# Altium schematic symbol library tm4cv006lib.SchLib: 203 symbols (part 3 of 5)
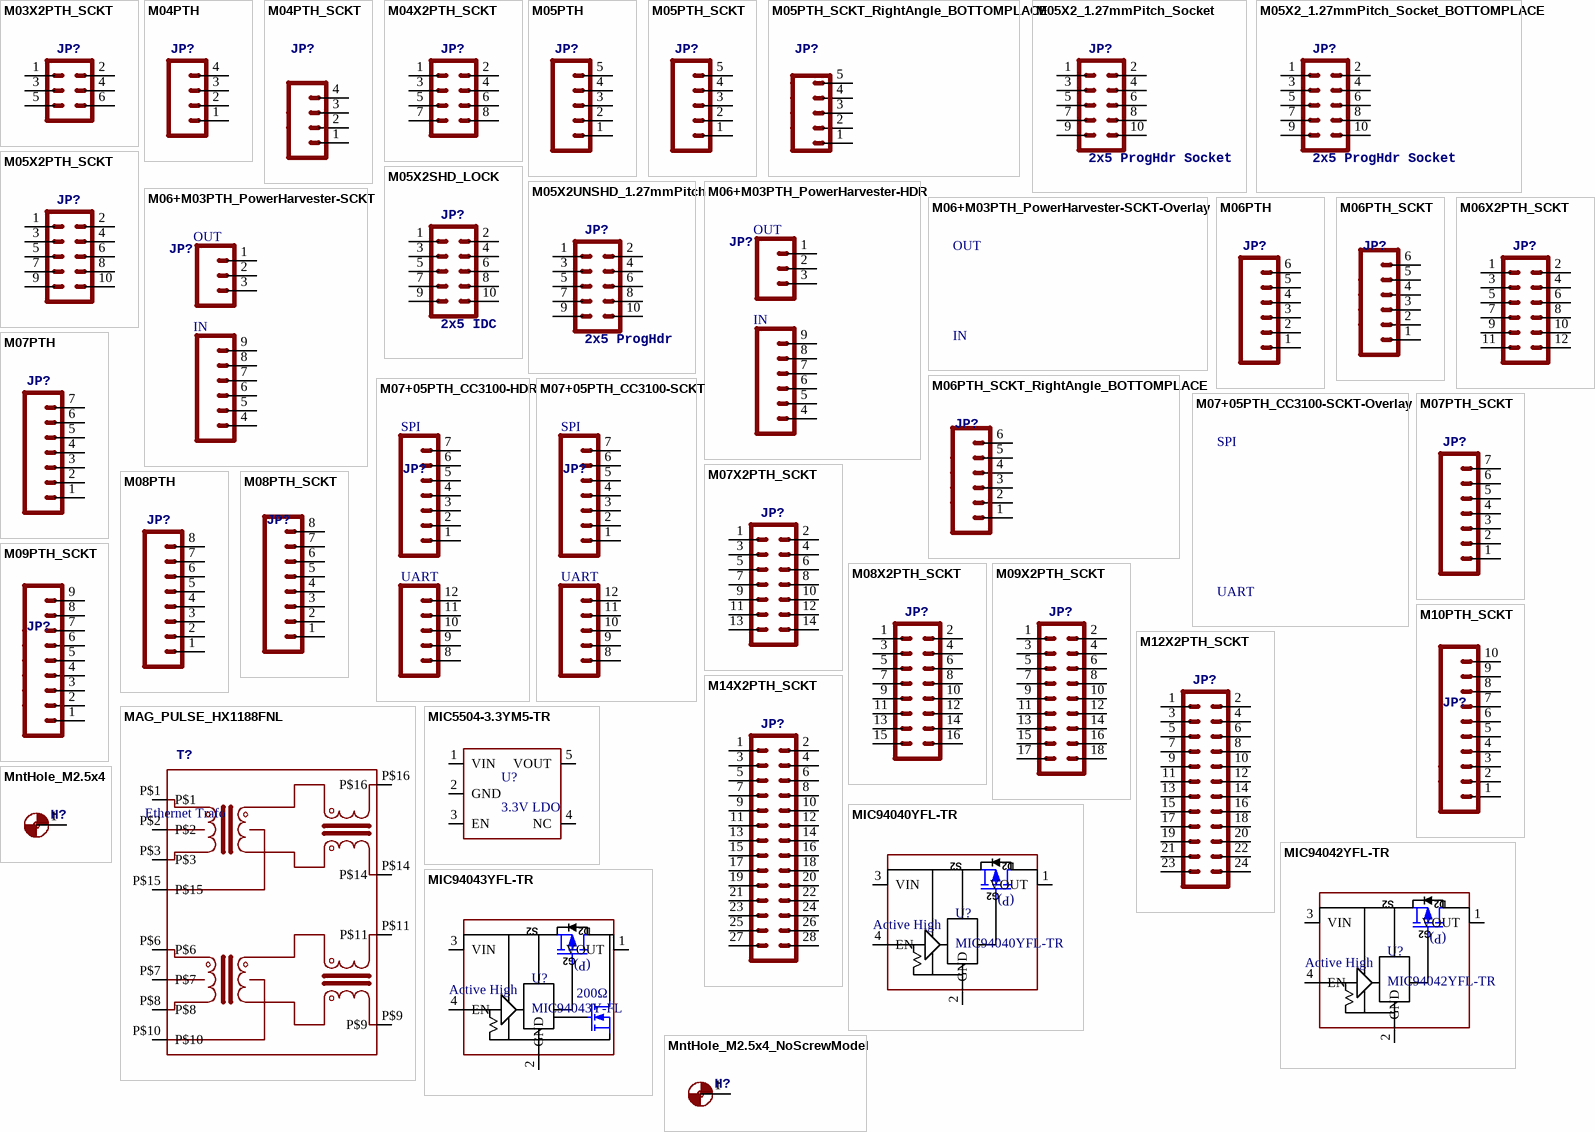
[diagram p7: symbols M03X2PTH_SCKT to MntHole_M2.5x4_NoScrewModel]

## M05X2SHD_LOCK
designator JP?, comment 2x5 IDC
2x5 IDC Shrouded Receptacle; Manufacturer: 3M Electronic Solutions Division; Manufacturer Part Number: 30310-6002HB; Current Rating: 1 A; Mounting Angle: Straight; Number of Positions: 10 Position; Pitch: 2.54 mm; Mating Post Length: 5.99 mm; Supplier 1: Mouser; Supplier Part Number 1: 517-30310-6002; RoHS: RoHS Compliant; Category: Headers & Wire Housings; Stock 1: 3708; Pricing 1: 1=0.640, 25=0.540, 50=0.480, 100=0.460, 200=0.420, 500=0.400, 1000=0.330, 2000=0.300, 5000=0.280 (USD); Accessory Type: -; Contact Plating: Gold; Contact Type: -; Housing Material: Polyester; Number of Rows: 2 Row; Packaging: Tray; Product: Headers; Series: 303; Termination Style: Through Hole; Type: Shrouded; Brand: 3M Electronic Solutions Division; Contact Material: Brass; Mounting Style: Straight Pin; Row Spacing: 2.54 mm; Contact Gender: Pin (Male); Product Category: .100" Low Profile Box Headers; Standard Pack Qty: 1000; Termination Post Length: 2.79 mm; RoHS - Mouser: Y; Minimum Order Quantity: 1; Reeling: False; ComponentLink1URL: http://www.mouser.com/ds/2/1/TS0818-221281.pdf; ComponentLink1Description: http://www.mouser.com/ds/2/1/TS0818-221281.pdf
footprint 2X5-SHROUDED_LOCK
pins: 1, 2, 3, 4, 5, 6, 7, 8, 9, 10

## M05X2UNSHD_1.27mmPitch
designator JP?, comment 2x5 ProgHdr
2x5 Pin 1.27mmPitch Programming Header; Manufacturer: Amphenol FCI; Manufacturer Part Number: 20021111-00010T1LF; Number of Positions: 10 Position; Pitch: 1.27 mm; Mating Post Length: 3.05 mm; RoHS: RoHS Compliant; Category: Headers & Wire Housings; Number of Rows: 2 Row; Packaging: Tube; Product: Headers; Series: Minitek; Type: Unshrouded; Brand: Amphenol FCI; Standard Pack Qty: 93; Termination Post Length: 2.3 mm; RoHS - Mouser: Y; Minimum Order Quantity: 1; Reeling: False; ComponentLink1URL: http://www.mouser.com/ds/2/18/gs-12-629-946365.pdf; ComponentLink1Description: http://www.mouser.com/ds/2/18/gs-12-629-946365.pdf; Supplier 1: Mouser; Supplier Part Number 1: 649-200211110010T1LF; Stock 1: 2408; Pricing 1: 1=0.580, 10=0.543, 100=0.416, 500=0.362, 1000=0.298, 2500=0.271, 5000=0.262, 10000=0.244, 25000=0.241 (USD); Supplier 2: Digi-Key; Supplier Part Number 2: 20021111-00010T1LF-ND; Supplier 3: Digi-Key; Supplier Part Number 3: 609-3712-ND
footprint 2x5_1.27mm_Unshrd_ProgHeader (Smaller 1.27mm pitch Programming Header)
pins: 1, 2, 3, 4, 5, 6, 7, 8, 9, 10

## M06+M03PTH_PowerHarvester-HDR
designator JP?  (value not drawn)
6 + 3 Pin Header
footprint HDR-PowerHarvester_1X06+1X03 (Power Harvester Header Connection)
pins: 1, 2, 3, 4, 5, 6, 7, 8, 9
text: OUT; IN

## M06+M03PTH_PowerHarvester-SCKT
designator JP?  (value not drawn)
6 + 3 Pin Header Socket
footprint SCKT-PowerHarvester_1X06+1X03 (Power Harvester Header Connection, Socket)
pins: 1, 2, 3, 4, 5, 6, 7, 8, 9
text: OUT; IN

## M06+M03PTH_PowerHarvester-SCKT-Overlay
designator JP?  (value not drawn)  (no BOM)
6 + 3 Pin Header Socket
footprint SCKT-PowerHarvester_1X06+1X03_OVERLAY (Power Harvester Header Connection, Socket)
text: OUT; IN

## M06PTH
designator JP?  (value not drawn)
6 Pin Header
footprint 1X06
pins: 1, 2, 3, 4, 5, 6

## M06PTH_SCKT
designator JP?  (value not drawn)
6 Pin Header Socket; Manufacturer: Preci-Dip; Manufacturer Part Number: 801-87-006-10-001101; Number of Positions: 6; Number of Positions Loaded: All; Pitch: 0.100" (2.54mm); Supplier 1: Digi-Key; Supplier Part Number 1: 1212-1186-ND; RoHS: RoHS Compliant; Category: Connectors, Interconnects; Stock 1: 1488; Pricing 1: 1=0.59, 10=0.551, 100=0.4225, 500=0.3674, 1000=0.30311, 5000=0.26637, 10000=0.248 (USD); Packaging: Bulk; Part Status: Active; Connector Type: Socket; Contact Type: Female Socket; Number of Rows: 1; Row Spacing: -; Mounting Type: Through Hole; Termination: Solder; Fastening Type: -; Features: -; Contact Finish: Gold; Contact Finish Thickness: Flash; Color: Black; ComponentLink1URL: http://www.precidip.com/AppHost/9696,1/Scripts/Modules/Catalog/Default.aspx?c=7&i=310&p=107&pdf=1&dsku=801-PP-NNN-10-001101; ComponentLink1Description: http://www.precidip.com/AppHost/9696,1/Scripts/Modules/Catalog/Default.aspx?c=7&i=310&p=107&pdf=1&dsku=801-PP-NNN-10-001101
footprint 1X06-SCKT
pins: 1, 2, 3, 4, 5, 6

## M06PTH_SCKT_RightAngle_BOTTOMPLACE
designator JP?, comment M06PTH_SCKT_RightAngle_BOTTOM  (value not drawn)
6 Pin Header Socket, Bottom Placement; Manufacturer: Preci-Dip; Manufacturer Part Number: 801-87-006-20-001101; Number of Positions: 6; Number of Positions Loaded: All; Pitch: 0.100" (2.54mm); Supplier 1: Digi-Key; Supplier Part Number 1: 1212-1187-ND; RoHS: RoHS Compliant; Category: Connectors, Interconnects; Stock 1: 1021; Pricing 1: 1=0.79, 10=0.693, 100=0.5978, 500=0.48912, 1000=0.43477, 5000=0.38042, 10000=0.3614 (USD); Packaging: Bulk; Part Status: Active; Connector Type: Socket; Contact Type: Female Socket; Number of Rows: 1; Row Spacing: -; Mounting Type: Through Hole, Right Angle; Termination: Solder; Fastening Type: -; Features: -; Contact Finish: Gold; Contact Finish Thickness: Flash; Color: Black; ComponentLink1URL: http://www.precidip.com/AppHost/9696,1/Scripts/Modules/Catalog/Default.aspx?c=7&i=223&p=86&pdf=1&dsku=801-PP-NNN-20-001101; ComponentLink1Description: http://www.precidip.com/AppHost/9696,1/Scripts/Modules/Catalog/Default.aspx?c=7&i=223&p=86&pdf=1&dsku=801-PP-NNN-20-001101
footprint 1X06-SCKT_RightAngle_BottomPlace
pins: 1, 2, 3, 4, 5, 6

## M06X2PTH_SCKT
designator JP?, comment M06X2PTH-SCKT  (value not drawn)
2X6 Pin Header Socket; Manufacturer: Preci-Dip; Manufacturer Part Number: 803-87-012-10-001101; Style: Board to Board; Number of Positions: 12; Number of Positions Loaded: All; Pitch - Mating: 0.100" (2.54mm); Contact Length - Post: 0.118" (3.00mm); Material Flammability Rating: UL94 V-0; Current Rating: 3A; Supplier 1: Digi-Key; Supplier Part Number 1: 1212-1238-ND; RoHS: RoHS Compliant; Category: Connectors, Interconnects; Stock 1: 1543; Pricing 1: 1=1.07, 10=0.937, 100=0.8083, 500=0.66132, 1000=0.58784, 5000=0.51436, 10000=0.48864 (USD); Packaging: Bulk; Part Status: Active; Connector Type: Socket; Contact Type: Female Socket; Number of Rows: 2; Row Spacing - Mating: 0.100" (2.54mm); Mounting Type: Through Hole; Termination: Solder; Fastening Type: Push-Pull; Contact Finish - Mating: Gold; Contact Finish Thickness - Mating: Flash; Insulation Color: Black; Insulation Height: 0.276" (7.00mm); Operating Temperature: -55°C ~ 125°C; Contact Finish - Post: Tin; Mated Stacking Heights: -; Ingress Protection: -; Features: -; Voltage Rating: -; Applications: -; Insulation Material: Polycyclohexylenedimethylene Terephthalate (PCT), Polyester, Glass Filled; Contact Shape: Circular; Contact Material: Beryllium Copper; Contact Finish Thickness - Post: -; ComponentLink1URL: http://www.precidip.com/AppHost/9696,1/Scripts/Modules/Catalog/Default.aspx?c=7&i=391&p=108&pdf=1&dsku=803-PP-NNN-10-001101; ComponentLink1Description: http://www.precidip.com/AppHost/9696,1/Scripts/Modules/Catalog/Default.aspx?c=7&i=391&p=108&pdf=1&dsku=803-PP-NNN-10-001101
footprint 2X6-SCKT
pins: 1, 2, 3, 4, 5, 6, 7, 8, 9, 10, 11, 12

## M07+05PTH_CC3100-HDR
designator JP?  (value not drawn)
7+5 Pin Header
footprint HDR-CC3100_1X07+1X05 (CC3100 Header Connection)
pins: 1, 2, 3, 4, 5, 6, 7, 8, 9, 10, 11, 12
text: SPI; UART

## M07+05PTH_CC3100-SCKT
designator JP?  (value not drawn)
7+5 Pin Header Socket
footprint SCKT-CC3100_1X07+1X05 (CC3100 Header Connection, Socket)
pins: 1, 2, 3, 4, 5, 6, 7, 8, 9, 10, 11, 12
text: SPI; UART

## M07+05PTH_CC3100-SCKT-Overlay
designator JP?  (value not drawn)  (no BOM)
7+5 Pin Header Socket
footprint SCKT-CC3100_1X07+1X05_Overlay (CC3100 Header Connection, Socket)
text: SPI; UART

## M07PTH
designator JP?  (value not drawn)
7 Pin Header
footprint 1X07
pins: 1, 2, 3, 4, 5, 6, 7

## M07PTH_SCKT
designator JP?  (value not drawn)
7 Pin Header Socket; Manufacturer: Preci-Dip; Manufacturer Part Number: 801-87-007-10-001101; Number of Positions: 7; Number of Positions Loaded: All; Pitch: 0.100" (2.54mm); RoHS: RoHS Compliant; Category: Connectors, Interconnects; Packaging: Bulk; Part Status: Active; Connector Type: Socket; Contact Type: Female Socket; Number of Rows: 1; Row Spacing: -; Mounting Type: Through Hole; Termination: Solder; Fastening Type: -; Features: -; Contact Finish: Gold; Contact Finish Thickness: Flash; Color: Black; ComponentLink1URL: http://www.precidip.com/AppHost/9696,1/Scripts/Modules/Catalog/Default.aspx?c=7&i=310&p=107&pdf=1&dsku=801-PP-NNN-10-001101; ComponentLink1Description: http://www.precidip.com/AppHost/9696,1/Scripts/Modules/Catalog/Default.aspx?c=7&i=310&p=107&pdf=1&dsku=801-PP-NNN-10-001101; Supplier 1: Digi-Key; Supplier Part Number 1: 1212-1188-ND; Stock 1: 1740; Pricing 1: 1=0.69, 10=0.643, 100=0.4929, 500=0.4286, 1000=0.3536, 5000=0.31074, 10000=0.28931 (USD)
footprint 1X07-SCKT
pins: 1, 2, 3, 4, 5, 6, 7

## M07X2PTH_SCKT
designator JP?, comment M07X2PTH-SCKT  (value not drawn)
2X7 Pin Header Socket; Manufacturer: Preci-Dip; Manufacturer Part Number: 803-87-014-10-001101; Style: Board to Board; Number of Positions: 14; Number of Positions Loaded: All; Pitch - Mating: 0.100" (2.54mm); Contact Length - Post: 0.118" (3.00mm); Material Flammability Rating: UL94 V-0; Current Rating: 3A; Supplier 1: Digi-Key; Supplier Part Number 1: 1212-1239-ND; RoHS: RoHS Compliant; Category: Connectors, Interconnects; Stock 1: 412; Pricing 1: 1=1.24, 10=1.093, 100=0.9429, 500=0.77148, 1000=0.68576, 5000=0.60004, 10000=0.57004 (USD); Packaging: Bulk; Part Status: Active; Connector Type: Socket; Contact Type: Female Socket; Number of Rows: 2; Row Spacing - Mating: 0.100" (2.54mm); Mounting Type: Through Hole; Termination: Solder; Fastening Type: Push-Pull; Contact Finish - Mating: Gold; Contact Finish Thickness - Mating: Flash; Insulation Color: Black; Insulation Height: 0.276" (7.00mm); Operating Temperature: -55°C ~ 125°C; Contact Finish - Post: Tin; Mated Stacking Heights: -; Ingress Protection: -; Features: -; Voltage Rating: -; Applications: -; Insulation Material: Polycyclohexylenedimethylene Terephthalate (PCT), Polyester, Glass Filled; Contact Shape: Circular; Contact Material: Beryllium Copper; Contact Finish Thickness - Post: -; ComponentLink1URL: http://www.precidip.com/AppHost/9696,1/Scripts/Modules/Catalog/Default.aspx?c=7&i=391&p=108&pdf=1&dsku=803-PP-NNN-10-001101; ComponentLink1Description: http://www.precidip.com/AppHost/9696,1/Scripts/Modules/Catalog/Default.aspx?c=7&i=391&p=108&pdf=1&dsku=803-PP-NNN-10-001101
footprint 2X7-SCKT
pins: 1, 2, 3, 4, 5, 6, 7, 8, 9, 10, 11, 12, 13, 14

## M08PTH
designator JP?  (value not drawn)
8 Pin Header
footprint 1X08
pins: 1, 2, 3, 4, 5, 6, 7, 8

## M08PTH_SCKT
designator JP?  (value not drawn)
8 Pin Header Socket; Manufacturer: Preci-Dip; Manufacturer Part Number: 801-87-008-10-001101; Number of Positions: 8; Number of Positions Loaded: All; Pitch: 0.100" (2.54mm); Supplier 1: Digi-Key; Supplier Part Number 1: 1212-1190-ND; RoHS: RoHS Compliant; Category: Connectors, Interconnects; Stock 1: 3070; Pricing 1: 1=0.78, 10=0.735, 100=0.5633, 500=0.4898, 1000=0.40409, 5000=0.35511, 10000=0.33062 (USD); Packaging: Bulk; Part Status: Active; Connector Type: Socket; Contact Type: Female Socket; Number of Rows: 1; Row Spacing: -; Mounting Type: Through Hole; Termination: Solder; Fastening Type: -; Features: -; Contact Finish: Gold; Contact Finish Thickness: Flash; Color: Black; ComponentLink1URL: http://www.precidip.com/AppHost/9696,1/Scripts/Modules/Catalog/Default.aspx?c=7&i=310&p=107&pdf=1&dsku=801-PP-NNN-10-001101; ComponentLink1Description: http://www.precidip.com/AppHost/9696,1/Scripts/Modules/Catalog/Default.aspx?c=7&i=310&p=107&pdf=1&dsku=801-PP-NNN-10-001101
footprint 1X08-SCKT
pins: 1, 2, 3, 4, 5, 6, 7, 8

## M08X2PTH_SCKT
designator JP?, comment M08X2PTH-SCKT  (value not drawn)
2X8 Pin Header Socket; Manufacturer: Preci-Dip; Manufacturer Part Number: 803-87-016-10-001101; Style: Board to Board; Number of Positions: 16; Number of Positions Loaded: All; Pitch - Mating: 0.100" (2.54mm); Contact Length - Post: 0.118" (3.00mm); Material Flammability Rating: UL94 V-0; Current Rating: 3A; Supplier 1: Digi-Key; Supplier Part Number 1: 1212-1241-ND; RoHS: RoHS Compliant; Category: Connectors, Interconnects; Stock 1: 1207; Pricing 1: 1=1.42, 10=1.249, 100=1.0776, 500=0.88164, 1000=0.78368, 5000=0.68572, 10000=0.65143 (USD); Packaging: Bulk; Part Status: Active; Connector Type: Socket; Contact Type: Female Socket; Number of Rows: 2; Row Spacing - Mating: 0.100" (2.54mm); Mounting Type: Through Hole; Termination: Solder; Fastening Type: Push-Pull; Contact Finish - Mating: Gold; Contact Finish Thickness - Mating: Flash; Insulation Color: Black; Insulation Height: 0.276" (7.00mm); Operating Temperature: -55°C ~ 125°C; Contact Finish - Post: Tin; Mated Stacking Heights: -; Ingress Protection: -; Features: -; Voltage Rating: -; Applications: -; Insulation Material: Polycyclohexylenedimethylene Terephthalate (PCT), Polyester, Glass Filled; Contact Shape: Circular; Contact Material: Beryllium Copper; Contact Finish Thickness - Post: -; ComponentLink1URL: http://www.precidip.com/AppHost/9696,1/Scripts/Modules/Catalog/Default.aspx?c=7&i=391&p=108&pdf=1&dsku=803-PP-NNN-10-001101; ComponentLink1Description: http://www.precidip.com/AppHost/9696,1/Scripts/Modules/Catalog/Default.aspx?c=7&i=391&p=108&pdf=1&dsku=803-PP-NNN-10-001101
footprint 2X8-SCKT
pins: 1, 2, 3, 4, 5, 6, 7, 8, 9, 10, 11, 12, 13, 14, 15, 16

## M09PTH_SCKT
designator JP?  (value not drawn)
9 Pin Header Socket; Manufacturer: Preci-Dip; Manufacturer Part Number: 801-87-009-10-001101; Number of Positions: 9; Number of Positions Loaded: All; Pitch: 0.100" (2.54mm); Supplier 1: Digi-Key; Supplier Part Number 1: 1212-1193-ND; RoHS: RoHS Compliant; Category: Connectors, Interconnects; Stock 1: 66; Pricing 1: 1=0.8, 10=0.703, 100=0.6061, 500=0.4959, 1000=0.4408, 5000=0.3857, 10000=0.36642 (USD); Packaging: Bulk; Part Status: Active; Connector Type: Socket; Contact Type: Female Socket; Number of Rows: 1; Row Spacing: -; Mounting Type: Through Hole; Termination: Solder; Fastening Type: -; Features: -; Contact Finish: Gold; Contact Finish Thickness: Flash; Color: Black; ComponentLink1URL: http://www.precidip.com/AppHost/9696,1/Scripts/Modules/Catalog/Default.aspx?c=7&i=310&p=107&pdf=1&dsku=801-PP-NNN-10-001101; ComponentLink1Description: http://www.precidip.com/AppHost/9696,1/Scripts/Modules/Catalog/Default.aspx?c=7&i=310&p=107&pdf=1&dsku=801-PP-NNN-10-001101
footprint 1X09-SCKT
pins: 1, 2, 3, 4, 5, 6, 7, 8, 9

## M09X2PTH_SCKT
designator JP?, comment M09X2PTH-SCKT  (value not drawn)
2X9 Pin Header Socket; Manufacturer: Preci-Dip; Manufacturer Part Number: 803-87-018-10-001101; Style: Board to Board; Number of Positions: 18; Number of Positions Loaded: All; Pitch - Mating: 0.100" (2.54mm); Contact Length - Post: 0.118" (3.00mm); Material Flammability Rating: UL94 V-0; Current Rating: 3A; Supplier 1: Digi-Key; Supplier Part Number 1: 1212-1244-ND; RoHS: RoHS Compliant; Category: Connectors, Interconnects; Stock 1: 575; Pricing 1: 1=1.49, 10=1.35, 100=1.1571, 500=0.96426, 1000=0.8265, 5000=0.73283, 10000=0.7163 (USD); Packaging: Bulk; Part Status: Active; Connector Type: Socket; Contact Type: Female Socket; Number of Rows: 2; Row Spacing - Mating: 0.100" (2.54mm); Mounting Type: Through Hole; Termination: Solder; Fastening Type: Push-Pull; Contact Finish - Mating: Gold; Contact Finish Thickness - Mating: Flash; Insulation Color: Black; Insulation Height: 0.276" (7.00mm); Operating Temperature: -55°C ~ 125°C; Contact Finish - Post: Tin; Mated Stacking Heights: -; Ingress Protection: -; Features: -; Voltage Rating: -; Applications: -; Insulation Material: Polycyclohexylenedimethylene Terephthalate (PCT), Polyester, Glass Filled; Contact Shape: Circular; Contact Material: Beryllium Copper; Contact Finish Thickness - Post: -; ComponentLink1URL: http://www.precidip.com/AppHost/9696,1/Scripts/Modules/Catalog/Default.aspx?c=7&i=391&p=108&pdf=1&dsku=803-PP-NNN-10-001101; ComponentLink1Description: http://www.precidip.com/AppHost/9696,1/Scripts/Modules/Catalog/Default.aspx?c=7&i=391&p=108&pdf=1&dsku=803-PP-NNN-10-001101
footprint 2X9-SCKT
pins: 1, 2, 3, 4, 5, 6, 7, 8, 9, 10, 11, 12, 13, 14, 15, 16, 17, 18

## M10PTH_SCKT
designator JP?  (value not drawn)
10 Pin Header Socket; Manufacturer: Preci-Dip; Manufacturer Part Number: 801-87-010-10-001101; Number of Positions: 10; Number of Positions Loaded: All; Pitch: 0.100" (2.54mm); Supplier 1: Digi-Key; Supplier Part Number 1: 1212-1195-ND; RoHS: RoHS Compliant; Category: Connectors, Interconnects; Stock 1: 409; Pricing 1: 1=0.89, 10=0.781, 100=0.6734, 500=0.55098, 1000=0.48976, 5000=0.42854, 10000=0.40711 (USD); Packaging: Bulk; Part Status: Active; Connector Type: Socket; Contact Type: Female Socket; Number of Rows: 1; Row Spacing: -; Mounting Type: Through Hole; Termination: Solder; Fastening Type: -; Features: -; Contact Finish: Gold; Contact Finish Thickness: Flash; Color: Black; ComponentLink1URL: http://www.precidip.com/AppHost/9696,1/Scripts/Modules/Catalog/Default.aspx?c=7&i=310&p=107&pdf=1&dsku=801-PP-NNN-10-001101; ComponentLink1Description: http://www.precidip.com/AppHost/9696,1/Scripts/Modules/Catalog/Default.aspx?c=7&i=310&p=107&pdf=1&dsku=801-PP-NNN-10-001101
footprint 1X10-SCKT
pins: 1, 2, 3, 4, 5, 6, 7, 8, 9, 10

## M12X2PTH_SCKT
designator JP?, comment M12X2PTH-SCKT  (value not drawn)
2X12 Pin Header Socket; Manufacturer: Preci-Dip; Manufacturer Part Number: 803-87-024-10-001101; Style: Board to Board; Number of Positions: 24; Number of Positions Loaded: All; Pitch - Mating: 0.100" (2.54mm); Contact Length - Post: 0.118" (3.00mm); Material Flammability Rating: UL94 V-0; Current Rating: 3A; Supplier 1: Digi-Key; Supplier Part Number 1: 1212-1252-ND; RoHS: RoHS Compliant; Category: Connectors, Interconnects; Stock 1: 498; Pricing 1: 1=1.93, 10=1.753, 100=1.5028, 500=1.25236, 1000=1.07345, 5000=0.95179, 10000=0.93032 (USD); Packaging: Bulk; Part Status: Active; Connector Type: Socket; Contact Type: Female Socket; Number of Rows: 2; Row Spacing - Mating: 0.100" (2.54mm); Mounting Type: Through Hole; Termination: Solder; Fastening Type: Push-Pull; Contact Finish - Mating: Gold; Contact Finish Thickness - Mating: Flash; Insulation Color: Black; Insulation Height: 0.276" (7.00mm); Operating Temperature: -55°C ~ 125°C; Contact Finish - Post: Tin; Mated Stacking Heights: -; Ingress Protection: -; Features: -; Voltage Rating: -; Applications: -; Insulation Material: Polycyclohexylenedimethylene Terephthalate (PCT), Polyester, Glass Filled; Contact Shape: Circular; Contact Material: Beryllium Copper; Contact Finish Thickness - Post: -; ComponentLink1URL: http://www.precidip.com/AppHost/9696,1/Scripts/Modules/Catalog/Default.aspx?c=7&i=391&p=108&pdf=1&dsku=803-PP-NNN-10-001101; ComponentLink1Description: http://www.precidip.com/AppHost/9696,1/Scripts/Modules/Catalog/Default.aspx?c=7&i=391&p=108&pdf=1&dsku=803-PP-NNN-10-001101
footprint 2X12-SCKT
pins: 1, 2, 3, 4, 5, 6, 7, 8, 9, 10, 11, 12, 13, 14, 15, 16, 17, 18, 19, 20, 21, 22, 23, 24

## M14X2PTH_SCKT
designator JP?, comment M14X2PTH-SCKT  (value not drawn)
2X14 Pin Header Socket; Manufacturer: Preci-Dip; Manufacturer Part Number: 803-87-028-10-001101; Style: Board to Board; Number of Positions: 28; Number of Positions Loaded: All; Pitch - Mating: 0.100" (2.54mm); Contact Length - Post: 0.118" (3.00mm); Material Flammability Rating: UL94 V-0; Current Rating: 3A; Supplier 1: Digi-Key; Supplier Part Number 1: 1212-1255-ND; RoHS: RoHS Compliant; Category: Connectors, Interconnects; Stock 1: 402; Pricing 1: 1=2.25, 10=2.045, 100=1.7532, 500=1.46102, 1000=1.25231, 5000=1.11038 (USD); Packaging: Bulk; Part Status: Active; Connector Type: Socket; Contact Type: Female Socket; Number of Rows: 2; Row Spacing - Mating: 0.100" (2.54mm); Mounting Type: Through Hole; Termination: Solder; Fastening Type: Push-Pull; Contact Finish - Mating: Gold; Contact Finish Thickness - Mating: Flash; Insulation Color: Black; Insulation Height: 0.276" (7.00mm); Operating Temperature: -55°C ~ 125°C; Contact Finish - Post: Tin; Mated Stacking Heights: -; Ingress Protection: -; Features: -; Voltage Rating: -; Applications: -; Insulation Material: Polycyclohexylenedimethylene Terephthalate (PCT), Polyester, Glass Filled; Contact Shape: Circular; Contact Material: Beryllium Copper; Contact Finish Thickness - Post: -; ComponentLink1URL: http://www.precidip.com/AppHost/9696,1/Scripts/Modules/Catalog/Default.aspx?c=7&i=391&p=108&pdf=1&dsku=803-PP-NNN-10-001101; ComponentLink1Description: http://www.precidip.com/AppHost/9696,1/Scripts/Modules/Catalog/Default.aspx?c=7&i=391&p=108&pdf=1&dsku=803-PP-NNN-10-001101
footprint 2X14-SCKT
pins: 1, 2, 3, 4, 5, 6, 7, 8, 9, 10, 11, 12, 13, 14, 15, 16, 17, 18, 19, 20, 21, 22, 23, 24, 25, 26, 27, 28

## MAG_PULSE_HX1188FNL
designator T?, comment Ethernet Trafo
Manufacturer: Pulse; Manufacturer Part Number: HX1198FNL; Frequency Range: 100 kHz to 100 MHz; Isolation Voltage: 1.5 kV; Type: 100 Base TX Single Port Surface Mount Magnetics; Supplier 1: Mouser; Supplier Part Number 1: 673-HX1198FNL; RoHS: RoHS Compliant; Category: Transformers Audio & Signal; Stock 1: 772; Pricing 1: 1=4.76, 10=3.86, 25=3.09, 50=2.92, 100=2.79, 250=2.71, 500=2.63, 1000=2.55, 2500=2.33 (USD); Height: 6 mm; Length: 12.7 mm; Operating Temperature Range: - 40 C to + 85 C; Package / Case: SMT; Packaging: Bulk; Product: 100 Base TX Single Port Surface Mount Magnetics; Termination Style: SMD/SMT; Width: 9.53 mm; Brand: Pulse; Product Category: Transformers; Standard Pack Qty: 40; RoHS - Mouser: Y; Minimum Order Quantity: 1; Reeling: False; ComponentLink1URL: http://www.mouser.com/ds/2/336/H329-262036.pdf; ComponentLink1Description: http://www.mouser.com/ds/2/336/H329-262036.pdf
footprint MAG_PULSE_HX1188FNL
pins: P$1, P$2, P$3, P$6, P$7, P$8, P$9, P$10, P$11, P$14, P$15, P$16

## MIC5504-3.3YM5-TR
designator U?, comment 3.3V LDO
Manufacturer: Microchip Technology; Manufacturer Part Number: MIC5504-3.3YM5-TR; Regulator Topology: Positive Fixed; Current - Output: 300mA; Voltage - Dropout (Typical): 0.16V @ 300mA; Number of Regulators: 1; Voltage - Input: Up to 5.5V; Current - Limit (Min): 400mA; Supplier 1: Digi-Key; Supplier Part Number 1: 576-4764-1-ND; RoHS: RoHS Compliant; Category: Integrated Circuits (ICs); Stock 1: 3590; Pricing 1: 1=0.11, 25=0.0928, 100=0.0824 (USD); Packaging: Cut Tape (CT); Part Status: Active; Voltage - Output: 3.3V; Operating Temperature: -40°C ~ 125°C; Mounting Type: Surface Mount; Package / Case: SC-74A, SOT-753; Supplier Device Package: SOT-23-5; ComponentLink1URL: http://www.microchip.com/mymicrochip/filehandler.aspx?ddocname=en580292; ComponentLink1Description: http://www.microchip.com/mymicrochip/filehandler.aspx?ddocname=en580292
footprint MIC5504-3.3YM5-TR (El Cheapo 3.3V LDO, SOT23, 5-Leads, Body 2.90x2.80mm, Pitch 0.95mm, IPC Medium Density)
pins: 1 VIN "Connection for Inductor", 2 GND "Connection for Inductor", 3 EN "Connection for Inductor", 4 NC "Connection for Inductor", 5 VOUT "Connection for Inductor"

## MIC94040YFL-TR
designator U?
High Side Load Switch; Manufacturer: Microchip / Micrel; Manufacturer Part Number: MIC94040YFLTR; Output Current: 3; Number of Outputs: 1; Max Input Voltage: 5.5; Min Input Voltage: 1.7; Interface: On/Off; On-State Resistance: 28; Supplier 1: Mouser; Supplier Part Number 1: 998-MIC94040YFLTR; Stock 1: 9585; Pricing 1: 1=0.64, 10=0.57, 50=0.48, 100=0.44, 1000=0.44, 10000=0.44 (USD); Mount: Surface Mount; Case/Package: DFN; Number of Pins: 4; Min Operating Temperature: -40; Max Operating Temperature: 125; Nominal Supply Current: 3; Packaging: Tape and Reel; Package Quantity: 5000; Current Rating: 3; Max Output Current: 3; Length: 1.2; Height: 0.75; Width: 1.2; Radiation Hardening: No; REACH SVHC: No SVHC; Lead Free: Lead Free; ComponentLink1URL: https://datasheet.ciiva.com/15108/getdatasheetpartid-115492-15108965.pdf; ComponentLink1Description: https://datasheet.ciiva.com/15108/getdatasheetpartid-115492-15108965.pdf; ComponentLink2URL: https://datasheet.ciiva.com/1955/mic9404x-1955815.pdf; ComponentLink2Description: https://datasheet.ciiva.com/1955/mic9404x-1955815.pdf; ComponentLink3URL: https://datasheet.ciiva.com/1955/mic9404x-1955816.pdf; ComponentLink3Description: https://datasheet.ciiva.com/1955/mic9404x-1955816.pdf; ComponentLink4URL: https://datasheet.ciiva.com/16391/mic9404x-16391240.pdf; ComponentLink4Description: https://datasheet.ciiva.com/16391/mic9404x-16391240.pdf; ComponentLink5URL: https://datasheet.ciiva.com/1955/mic9404x-1955817.pdf; ComponentLink5Description: https://datasheet.ciiva.com/1955/mic9404x-1955817.pdf; ComponentLink6URL: https://datasheet.ciiva.com/7992/1670802-7992543.pdf; ComponentLink6Description: https://datasheet.ciiva.com/7992/1670802-7992543.pdf
footprint MIC94040YFL-TR (DFN, 4-Leads, Body 1.20x1.20mm, Pitch 0.65mm, IPC Medium Density)
pins: 1 VOUT, 2 GND, 3 VIN, 4 EN
text: S2; D2; G2; (P); Active High

## MIC94042YFL-TR
designator U?
High Side Load Switch; Manufacturer: Microchip / Micrel; Manufacturer Part Number: MIC94042YFLTR; Output Current: 3; Number of Outputs: 1; Interface: On/Off; Voltage: 5.5; On-State Resistance: 28; Supplier 1: Mouser; Supplier Part Number 1: 998-MIC94042YFLTR; Stock 1: 3483; Pricing 1: 1=0.74, 10=0.67, 50=0.56, 100=0.51, 1000=0.51, 10000=0.51 (USD); Mount: Surface Mount; Case/Package: DFN; Number of Pins: 4; Min Operating Temperature: -40; Max Operating Temperature: 125; Nominal Supply Current: 3; Packaging: Tape and Reel; Package Quantity: 5000; Current Rating: 3; Max Output Current: 3; Current: 3; Length: 1.2; Height: 0.7; Width: 1.2; REACH SVHC: No SVHC; Lead Free: Lead Free; ComponentLink1URL: https://datasheet.ciiva.com/1956/mic9404x-1956232.pdf; ComponentLink1Description: https://datasheet.ciiva.com/1956/mic9404x-1956232.pdf; ComponentLink2URL: https://datasheet.ciiva.com/1956/mic9404x-1956233.pdf; ComponentLink2Description: https://datasheet.ciiva.com/1956/mic9404x-1956233.pdf; ComponentLink3URL: https://datasheet.ciiva.com/1956/mic9404x-1956234.pdf; ComponentLink3Description: https://datasheet.ciiva.com/1956/mic9404x-1956234.pdf; ComponentLink4URL: https://datasheet.ciiva.com/46430/1670802-46430492.pdf; ComponentLink4Description: https://datasheet.ciiva.com/46430/1670802-46430492.pdf
footprint MIC94042YFL-TR (DFN, 4-Leads, Body 1.20x1.20mm, Pitch 0.65mm, IPC Medium Density)
pins: 1 VOUT, 2 GND, 3 VIN, 4 EN
text: S2; D2; G2; (P); Active High

## MIC94043YFL-TR
designator U?, comment MIC94043Y-FL
High Side Load Switch; Manufacturer: Microchip Technology; Manufacturer Part Number: MIC94040YFL-TR; Switch Type: General Purpose; Number of Outputs: 1; Ratio - Input:Output: 1:1; Output Type: P-Channel; Interface: On/Off; Voltage - Load: 1.7 V ~ 5.5 V; Voltage - Supply (Vcc/Vdd): Not Required; Current - Output (Max): 3A; Rds On (Typ): 28 mOhm; Input Type: Non-Inverting; Supplier 1: Digi-Key; Supplier Part Number 1: 576-3225-1-ND; RoHS: RoHS Compliant; Category: Integrated Circuits (ICs); Stock 1: 17181; Pricing 1: 1=0.59, 25=0.4944, 100=0.4532 (USD); Packaging: Cut Tape (CT); Part Status: Active; Output Configuration: High Side; Features: -; Fault Protection: -; Operating Temperature: -40°C ~ 125°C (TJ); Package / Case: 4-WQFN, 4-MLF®; Supplier Device Package: 4-MLF® (1.2x1.2); ComponentLink1URL: http://www.microchip.com/mymicrochip/filehandler.aspx?ddocname=en580796; ComponentLink1Description: http://www.microchip.com/mymicrochip/filehandler.aspx?ddocname=en580796; Supplier 2: Mouser; Supplier Part Number 2: 998-MIC94040YFLTR
footprint MIC94043Y-FL (DFN, 4-Leads, Body 1.20x1.20mm, Pitch 0.65mm, IPC Medium Density)
pins: 1 VOUT, 2 GND, 3 VIN, 4 EN
text: S2; D2; G2; (P); Active High; 200Ω

## MntHole_M2.5x4
designator H?, comment Mounting Hole  (value not drawn)  (no BOM)
Mount Hole for M2.5x4 Machine Screws
footprint MntHole-M2.5x4mm (Mounting Hole, 2.5X4mm Machine Screws)
pins: 1

## MntHole_M2.5x4_NoScrewModel
designator H?, comment Mounting Hole  (value not drawn)  (no BOM)
Mount Hole for M2.5x4 Machine Screws
footprint MntHole-M2.5x4_NoScrewModel (Mounting Hole, 2.5X4mm Machine Screws)
pins: 1

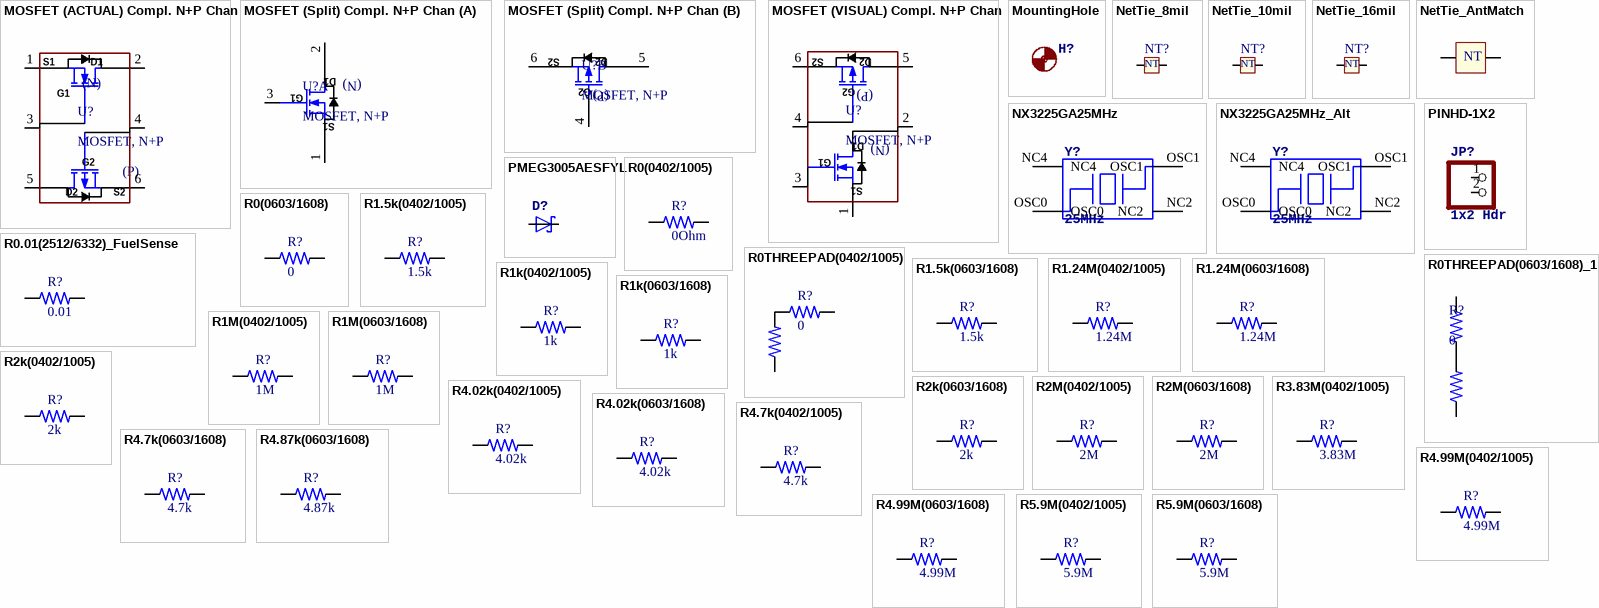
[diagram p3: symbols MOSFET (ACTUAL) Compl. N+P Chan to R5.9M(0603/1608)]

## MOSFET (ACTUAL) Compl. N+P Chan
designator U?, comment MOSFET, N+P
MOSFET, N+P Channels; Manufacturer: Diodes Incorporated; Manufacturer Part Number: DMC1229UFDB-13; Configuration: 1 N-Channel, 1 P-Channel; Number of Channels: 2 Channel; Transistor Polarity: N-Channel, P-Channel; Channel Mode: Enhancement; Fall Time: 4.1 ns, 26.4 ns; Id - Continuous Drain Current: 5.6 A, - 3.8 A; Pd - Power Dissipation: 1.4 W; Qg - Gate Charge: 19.6 nC, 17.9 nC; Rds On - Drain-Source Resistance: 17 mOhms, 37 mOhms; Rise Time: 10.5 ns,11.5 ns; Typical Turn-Off Delay Time: 16.6 ns, 27.8 ns; Typical Turn-On Delay Time: 5 ns, 5.7 ns; Vds - Drain-Source Breakdown Voltage: + 12 V, - 12 V; Vgs - Gate-Source Voltage: +/- 8 V, +/- 8 V; Vgs th - Gate-Source Threshold Voltage: 400 mV, - 1 V; Supplier 1: Mouser; Supplier Part Number 1: 621-DMC1229UFDB-13; RoHS: RoHS Compliant; Category: MOSFET; Stock 1: 4235; Pricing 1: 1=0.500, 10=0.375, 100=0.236, 1000=0.176, 2500=0.151, 10000=0.140, 20000=0.132, 50000=0.127 (USD); Package / Case: UDFN2020-6; Packaging: Reel; Series: DMC1229; Technology: Si; Transistor Type: 1 N-Channel, 1 P-Channel; Brand: Diodes Incorporated; Forward Transconductance - Min: -; Mounting Style: SMD/SMT; Maximum Operating Temperature: + 150 C; Minimum Operating Temperature: - 55 C; Standard Pack Qty: 10000; RoHS - Mouser: Y; Minimum Order Quantity: 1; Reeling: True; ComponentLink1URL: http://www.mouser.com/ds/2/115/DMC1229UFDB-271611.pdf; ComponentLink1Description: http://www.mouser.com/ds/2/115/DMC1229UFDB-271611.pdf
footprint DMC1229UFDB-13 (MOSFET, Complimentary N+P Channel)
pins: 1 S1 "Connection for Inductor", 2 D1 "Connection for Inductor", 3 G1 "Connection for Inductor", 4 G2 "Connection for Inductor", 5 D2 "Connection for Inductor", 6 S2 "Connection for Inductor"
text: (N); (P)

## MOSFET (Split) Compl. N+P Chan
designator U?, comment MOSFET, N+P
MOSFET, N+P Channels; Manufacturer: Diodes Incorporated; Manufacturer Part Number: DMC1229UFDB-13; Configuration: 1 N-Channel, 1 P-Channel; Number of Channels: 2 Channel; Transistor Polarity: N-Channel, P-Channel; Channel Mode: Enhancement; Fall Time: 4.1 ns, 26.4 ns; Id - Continuous Drain Current: 5.6 A, - 3.8 A; Pd - Power Dissipation: 1.4 W; Qg - Gate Charge: 19.6 nC, 17.9 nC; Rds On - Drain-Source Resistance: 17 mOhms, 37 mOhms; Rise Time: 10.5 ns,11.5 ns; Typical Turn-Off Delay Time: 16.6 ns, 27.8 ns; Typical Turn-On Delay Time: 5 ns, 5.7 ns; Vds - Drain-Source Breakdown Voltage: + 12 V, - 12 V; Vgs - Gate-Source Voltage: +/- 8 V, +/- 8 V; Vgs th - Gate-Source Threshold Voltage: 400 mV, - 1 V; Supplier 1: Mouser; Supplier Part Number 1: 621-DMC1229UFDB-13; RoHS: RoHS Compliant; Category: MOSFET; Stock 1: 4235; Pricing 1: 1=0.500, 10=0.375, 100=0.236, 1000=0.176, 2500=0.151, 10000=0.140, 20000=0.132, 50000=0.127 (USD); Package / Case: UDFN2020-6; Packaging: Reel; Series: DMC1229; Technology: Si; Transistor Type: 1 N-Channel, 1 P-Channel; Brand: Diodes Incorporated; Forward Transconductance - Min: -; Mounting Style: SMD/SMT; Maximum Operating Temperature: + 150 C; Minimum Operating Temperature: - 55 C; Standard Pack Qty: 10000; RoHS - Mouser: Y; Minimum Order Quantity: 1; Reeling: True; ComponentLink1URL: http://www.mouser.com/ds/2/115/DMC1229UFDB-271611.pdf; ComponentLink1Description: http://www.mouser.com/ds/2/115/DMC1229UFDB-271611.pdf
footprint DMC1229UFDB-13 (MOSFET, Complimentary N+P Channel)
part A pins: 1 S1 "Connection for Inductor", 2 D1 "Connection for Inductor", 3 G1 "Connection for Inductor"
part B pins: 4 G2 "Connection for Inductor", 5 D2 "Connection for Inductor", 6 S2 "Connection for Inductor"
part A text: (N)
part B text: (P)

## MOSFET (VISUAL) Compl. N+P Chan
designator U?, comment MOSFET, N+P
MOSFET, N+P Channels; Manufacturer: Diodes Incorporated; Manufacturer Part Number: DMC1229UFDB-13; Configuration: 1 N-Channel, 1 P-Channel; Number of Channels: 2 Channel; Transistor Polarity: N-Channel, P-Channel; Channel Mode: Enhancement; Fall Time: 4.1 ns, 26.4 ns; Id - Continuous Drain Current: 5.6 A, - 3.8 A; Pd - Power Dissipation: 1.4 W; Qg - Gate Charge: 19.6 nC, 17.9 nC; Rds On - Drain-Source Resistance: 17 mOhms, 37 mOhms; Rise Time: 10.5 ns,11.5 ns; Typical Turn-Off Delay Time: 16.6 ns, 27.8 ns; Typical Turn-On Delay Time: 5 ns, 5.7 ns; Vds - Drain-Source Breakdown Voltage: + 12 V, - 12 V; Vgs - Gate-Source Voltage: +/- 8 V, +/- 8 V; Vgs th - Gate-Source Threshold Voltage: 400 mV, - 1 V; Supplier 1: Mouser; Supplier Part Number 1: 621-DMC1229UFDB-13; RoHS: RoHS Compliant; Category: MOSFET; Stock 1: 4235; Pricing 1: 1=0.500, 10=0.375, 100=0.236, 1000=0.176, 2500=0.151, 10000=0.140, 20000=0.132, 50000=0.127 (USD); Package / Case: UDFN2020-6; Packaging: Reel; Series: DMC1229; Technology: Si; Transistor Type: 1 N-Channel, 1 P-Channel; Brand: Diodes Incorporated; Forward Transconductance - Min: -; Mounting Style: SMD/SMT; Maximum Operating Temperature: + 150 C; Minimum Operating Temperature: - 55 C; Standard Pack Qty: 10000; RoHS - Mouser: Y; Minimum Order Quantity: 1; Reeling: True; ComponentLink1URL: http://www.mouser.com/ds/2/115/DMC1229UFDB-271611.pdf; ComponentLink1Description: http://www.mouser.com/ds/2/115/DMC1229UFDB-271611.pdf
footprint DMC1229UFDB-13 (MOSFET, Complimentary N+P Channel)
pins: 1 S1 "Connection for Inductor", 2 D1 "Connection for Inductor", 3 G1 "Connection for Inductor", 4 G2 "Connection for Inductor", 5 D2 "Connection for Inductor", 6 S2 "Connection for Inductor"
text: (P); (N)

## MountingHole
designator H?, comment Mounting Hole  (value not drawn)  (no BOM)
footprint MntHole

## NetTie_8mil
designator NT?  (net tie, no BOM)
Net Tie
footprint Net_Tie
pins: 1, 2
text: NT

## NetTie_10mil
designator NT?  (net tie, no BOM)
Net Tie
footprint Net_Tie-10mil
pins: 1, 2
text: NT

## NetTie_16mil
designator NT?  (net tie, no BOM)
Net Tie
footprint Net_Tie-16mil
pins: 1, 2
text: NT

## NetTie_AntMatch
designator NT?  (net tie, no BOM)
Net Tie
footprint Net_Tie_AntMatch
pins: 1, 2
text: NT

## NX3225GA25MHz
designator Y?, comment 25MHz
Crystal, 25 MHz; Manufacturer_Name: NDK; Manufacturer_Part_Number: NX3225GA-25.000M-STD-CRG-2; Vendor: DigiKey; Frequency Stability: ±30ppm; Frequency Tolerance: ±20ppm; Load Capacitance: 8pF; ESR (Equivalent Series Resistance): 50 Ohm; Operating Mode: Fundamental; ComponentLink1URL: http://www.ndk.com/images/products/catalog/c_NX3225GA-STD-CRG-2_e.pdf; ComponentLink1Description: Datasheet for NX3225GA-25.000M-STD-CRG-2; Value: *; Supplier 1: Digi-Key; Supplier Part Number 1: 644-1259-1-ND; Manufacturer: NDK; Manufacturer Part Number: NX3225GA-25.000M-STD-CRG-2; RoHS: RoHS Compliant; Category: Crystals and Oscillators; Stock 1: 1164; Pricing 1: 1=0.61, 10=0.51, 50=0.4578, 100=0.4074, 500=0.388, 1000=0.32592 (USD); Packaging: Cut Tape (CT); Type: MHz Crystal; Frequency: 25MHz; Operating Temperature: -40°C ~ 85°C; Ratings: -; Mounting Type: Surface Mount; Package / Case: 4-SMD, No Lead (DFN, LCC); Size / Dimension: 0.126" L x 0.098" W (3.20mm x 2.50mm); Height: 0.035" (0.90mm)
footprint NDK3.2X2.5
pins: NC2, NC4, OSC0, OSC1

## NX3225GA25MHz_Alt
designator Y?, comment 25MHz
Crystal, 25 MHz; Manufacturer: NDK; Manufacturer Part Number: NX3225GA-25.000M-STD-CRG-1; Frequency Stability: ±30ppm; Frequency Tolerance: ±20ppm; Load Capacitance: 8pF; ESR (Equivalent Series Resistance): 50 Ohm; Operating Mode: Fundamental; Supplier 1: Digi-Key; Supplier Part Number 1: 644-1258-1-ND; RoHS: RoHS Compliant; Category: Crystals, Oscillators, Resonators; Stock 1: 1002; Pricing 1: 1=0.64, 10=0.534, 50=0.4802, 100=0.4268, 500=0.40546, 1000=0.34144 (USD); Packaging: Cut Tape (CT); Part Status: Active; Type: MHz Crystal; Frequency: 25MHz; Operating Temperature: -10°C ~ 70°C; Ratings: -; Mounting Type: Surface Mount; Package / Case: 4-SMD, No Lead; Size / Dimension: 0.126" L x 0.098" W (3.20mm x 2.50mm); Height - Seated (Max): 0.035" (0.90mm); ComponentLink1URL: http://www.ndk.com/images/products/catalog/c_NX3225GA-STD-CRG-1_e.pdf; ComponentLink1Description: http://www.ndk.com/images/products/catalog/c_NX3225GA-STD-CRG-1_e.pdf
footprint NDK3.2X2.5
pins: NC2, NC4, OSC0, OSC1

## PINHD-1X2
designator JP?, comment 1x2 Hdr
footprint 1X02
pins: 1, 2

## PMEG3005AESFYL
designator D?  (value not drawn)
Schottky Diode; Manufacturer: NXP Semiconductors; Configuration: Single; If - Forward Current: 500 mA; Ifsm - Forward Surge Current: 4 A; Ir - Reverse Current: 4 uA; Pd - Power Dissipation: 405 mW; trr - Reverse Recovery time: 1.37 ns; Vf - Forward Voltage: 250 mV; Vr - Reverse Voltage: 30 V; Product Status: New Product; Supplier 1: Mouser; Manufacturer Part Number: PMEG3005AESFYL; RoHS: RoHS Compliant; Category: Schottky Diodes & Rectifiers; Stock 1: 9451; Pricing 1: 1=0.340, 10=0.227, 100=0.097, 1000=0.075, 2500=0.057, 9000=0.050, 18000=0.047, 45000=0.042, 99000=0.040 (USD); Package / Case: SOD-962-2; Packaging: Reel; Product: Schottky Rectifiers; Technology: Si; Brand: NXP Semiconductors; Mounting Style: SMD/SMT; Maximum Operating Temperature: + 150 C; Minimum Operating Temperature: - 55 C; Standard Pack Qty: 9000; Vrrm - Repetitive Reverse Voltage: 30 V; RoHS - Mouser: Y; Minimum Order Quantity: 1; Reeling: True; ComponentLink1URL: http://www.nxp.com/documents/data_sheet/PMEG3005AESF.pdf; ComponentLink1Description: http://www.nxp.com/documents/data_sheet/PMEG3005AESF.pdf; Supplier Part Number 1: 771-PMEG3005AESFYL
footprint PMEG3005AESFYL (Schottky Diode, DFN, 2-Leads, Body 0.30x0.60mm, Pitch 0.40mm, IPC Medium Density)
pins: 1 K, 2 A

## R0(0402/1005)
designator R?, comment 0Ohm
0 Resistor; Manufacturer: Yageo; Manufacturer Part Number: RC0402JR-070RL; Resistance: 0 Ohms; RoHS: RoHS Compliant; Category: Thick Film Resistors - SMD; Height: 0.35 mm; Length: 1 mm; Operating Temperature Range: - 55 C to + 155 C; Package / Case: 0402 (1005 metric); Packaging: Reel; Power Rating: -; Product: Thick Film Resistors Zero-Ohm; Series: RC; Temperature Coefficient: -; Termination Style: SMD/SMT; Tolerance: -; Type: General Purpose Chip Resistor Surface Mount; Voltage Rating: -; Width: 0.5 mm; Brand: Yageo; Case Code - in: 0402; Case Code - mm: 1005; Standard Pack Qty: 10000; RoHS - Mouser: Y; Minimum Order Quantity: 1; Reeling: True; ComponentLink1URL: http://www.mouser.com/ds/2/447/PYu-RC0402_51_RoHS_L_6_r-8721.pdf; ComponentLink1Description: http://www.mouser.com/ds/2/447/PYu-RC0402_51_RoHS_L_6_r-8721.pdf; Supplier 1: Mouser; Supplier Part Number 1: 603-RC0402JR-070RL; Stock 1: 1006821; Pricing 1: 1=0.100, 10=0.007, 100=0.002, 2500=0.001, 10000=0.001 (USD)
footprint R0402_1005 (Chip Resistor, 2-Leads, Body 1.00x0.50mm, IPC Medium Density)
pins: 1, 2

## R0(0603/1608)
designator R?, comment 0
0 Resistor; Manufacturer: Yageo; Manufacturer Part Number: RC0603FR-070RL; Resistance: 0 Ohms; Supplier 1: Mouser; Supplier Part Number 1: 603-RC0603FR-070RL; RoHS: RoHS Compliant By Exemption; Category: Thick Film Resistors - SMD; Stock 1: 686909; Pricing 1: 1=0.100, 10=0.010, 100=0.003, 1000=0.002, 5000=0.002, 10000=0.001 (USD); Height: 0.45 mm; Length: 1.6 mm; Operating Temperature Range: - 55 C to + 155 C; Package / Case: 0603 (1608 metric); Packaging: Reel; Power Rating: -; Product: Thick Film Resistors Zero-Ohm; Series: RC; Temperature Coefficient: -; Termination Style: SMD/SMT; Tolerance: -; Type: General Purpose Chip Resistor Surface Mount; Voltage Rating: -; Width: 0.8 mm; Brand: Yageo; Case Code - in: 0603; Case Code - mm: 1608; Standard Pack Qty: 5000; RoHS - Mouser: E; Minimum Order Quantity: 1; Reeling: True; ComponentLink1URL: http://www.mouser.com/ds/2/447/RC0603-272842.pdf; ComponentLink1Description: http://www.mouser.com/ds/2/447/RC0603-272842.pdf
footprint R0603_1608 (Chip Resistor, 2-Leads, Body 1.60x0.80mm, IPC Medium Density)
pins: 1, 2

## R0.01(2512/6332)_FuelSense
designator R?, comment 0.01
0.01 Resistor; Manufacturer: Bourns; Manufacturer Part Number: CRL2512-FU-R010ELF; Power Rating: 1 W; Resistance: 0.01 Ohms; Temperature Coefficient: 600 PPM / C; Tolerance: 1 %; Supplier 1: Mouser; Supplier Part Number 1: 652-CRL2512FUR010ELF; RoHS: RoHS Compliant By Exemption; Category: Thick Film Resistors - SMD; Stock 1: 3562; Pricing 1: 1=0.830, 10=0.535, 100=0.416, 500=0.337, 1000=0.272, 4000=0.239, 8000=0.226, 24000=0.220, 48000=0.219 (USD); Height: 0.6 mm; Length: 6.3 mm; Operating Temperature Range: - 55 C to + 125 C; Package / Case: 2512 (6432 metric); Packaging: Reel; Product: Thick Film Resistors SMD; Series: CRL; Termination Style: SMD/SMT; Width: 3.1 mm; Brand: Bourns; Case Code - in: 2512; Case Code - mm: 6432; Standard Pack Qty: 4000; RoHS - Mouser: E; Minimum Order Quantity: 1; Reeling: True; ComponentLink1URL: http://www.mouser.com/ds/2/54/RL-764981.pdf; ComponentLink1Description: http://www.mouser.com/ds/2/54/RL-764981.pdf
footprint R2512_6332 (Chip Resistor, 2-Leads, Body 6.25x3.15mm, IPC Medium Density)
pins: 1, 2

## R0THREEPAD(0402/1005)
designator R?, comment 0
0 Resistor; Manufacturer: Yageo; Manufacturer Part Number: RC0402JR-070RL; Resistance: 0 Ohms; RoHS: RoHS Compliant; Category: Thick Film Resistors - SMD; Height: 0.35 mm; Length: 1 mm; Operating Temperature Range: - 55 C to + 155 C; Package / Case: 0402 (1005 metric); Packaging: Reel; Power Rating: -; Product: Thick Film Resistors Zero-Ohm; Series: RC; Temperature Coefficient: -; Termination Style: SMD/SMT; Tolerance: -; Type: General Purpose Chip Resistor Surface Mount; Voltage Rating: -; Width: 0.5 mm; Brand: Yageo; Case Code - in: 0402; Case Code - mm: 1005; Standard Pack Qty: 10000; RoHS - Mouser: Y; Minimum Order Quantity: 1; Reeling: True; ComponentLink1URL: http://www.mouser.com/ds/2/447/PYu-RC0402_51_RoHS_L_6_r-8721.pdf; ComponentLink1Description: http://www.mouser.com/ds/2/447/PYu-RC0402_51_RoHS_L_6_r-8721.pdf; Supplier 1: Mouser; Supplier Part Number 1: 603-RC0402JR-070RL; Stock 1: 1006621; Pricing 1: 1=0.100, 10=0.007, 100=0.002, 2500=0.001, 10000=0.001 (USD)
footprint R0402_1005_Three_Pad (Chip Resistor, 2-Leads, Body 1.00x0.50mm, IPC Medium Density)
pins: 1, 2, 3

## R0THREEPAD(0603/1608)_1
designator R?, comment 0
0 Resistor; Manufacturer: Yageo; Manufacturer Part Number: RC0603FR-070RL; Resistance: 0 Ohms; Supplier 1: Mouser; Supplier Part Number 1: 603-RC0603FR-070RL; RoHS: RoHS Compliant By Exemption; Category: Thick Film Resistors - SMD; Stock 1: 686909; Pricing 1: 1=0.100, 10=0.010, 100=0.003, 1000=0.002, 5000=0.002, 10000=0.001 (USD); Height: 0.45 mm; Length: 1.6 mm; Operating Temperature Range: - 55 C to + 155 C; Package / Case: 0603 (1608 metric); Packaging: Reel; Power Rating: -; Product: Thick Film Resistors Zero-Ohm; Series: RC; Temperature Coefficient: -; Termination Style: SMD/SMT; Tolerance: -; Type: General Purpose Chip Resistor Surface Mount; Voltage Rating: -; Width: 0.8 mm; Brand: Yageo; Case Code - in: 0603; Case Code - mm: 1608; Standard Pack Qty: 5000; RoHS - Mouser: E; Minimum Order Quantity: 1; Reeling: True; ComponentLink1URL: http://www.mouser.com/ds/2/447/RC0603-272842.pdf; ComponentLink1Description: http://www.mouser.com/ds/2/447/RC0603-272842.pdf
footprint R0603_1608_Three_Pad (Chip Resistor, 2-Leads, Body 1.60x0.80mm, IPC Medium Density)
pins: 1, 2, 3

## R1.5k(0402/1005)
designator R?, comment 1.5k
1.5k Resistor; Manufacturer: Panasonic; Manufacturer Part Number: ERJ-2RKF1501X; Power Rating: 100 mW; Resistance: 1.5 kOhms; Temperature Coefficient: 100 PPM / C; Tolerance: 1 %; Voltage Rating: 50 V; Qualification: AEC-Q200; RoHS: RoHS Compliant By Exemption; Category: Thick Film Resistors - SMD; Height: 0.35 mm; Length: 1 mm; Operating Temperature Range: - 55 C to + 155 C; Package / Case: 0402 (1005 metric); Packaging: Reel; Product: Thick Film Resistors SMD; Termination Style: SMD/SMT; Type: Precision Thick Film Resistors SMD; Width: 0.5 mm; Brand: Panasonic; Case Code - in: 0402; Case Code - mm: 1005; Standard Pack Qty: 10000; RoHS - Mouser: E; Minimum Order Quantity: 1; Reeling: True; ComponentLink1URL: http://www.mouser.com/ds/2/315/AOA0000C86-911473.pdf; ComponentLink1Description: http://www.mouser.com/ds/2/315/AOA0000C86-911473.pdf; Supplier 1: Mouser; Supplier Part Number 1: 667-ERJ-2RKF1501X; Stock 1: 162059; Pricing 1: 1=0.100, 10=0.015, 100=0.006, 1000=0.004, 5000=0.003, 10000=0.002 (USD)
footprint R0402_1005 (Chip Resistor, 2-Leads, Body 1.00x0.50mm, IPC Medium Density)
pins: 1, 2

## R1.5k(0603/1608)
designator R?, comment 1.5k
1.5k Resistor; Manufacturer: Yageo; Manufacturer Part Number: RC0603FR-071K5L; Power Rating: 100 mW; Resistance: 1.5 kOhms; Temperature Coefficient: 100 PPM / C; Tolerance: 1 %; Voltage Rating: 75 V; Supplier 1: Mouser; Supplier Part Number 1: 603-RC0603FR-071K5L; RoHS: RoHS Compliant; Category: Thick Film Resistors - SMD; Stock 1: 110826; Pricing 1: 1=0.100, 10=0.010, 100=0.003, 1000=0.002, 5000=0.002, 10000=0.001 (USD); Height: 0.45 mm; Length: 1.6 mm; Operating Temperature Range: - 55 C to + 155 C; Package / Case: 0603 (1608 metric); Packaging: Reel; Product: Thick Film Resistors General Purpose; Series: RC; Termination Style: SMD/SMT; Type: General Purpose Chip Resistor Surface Mount; Width: 0.8 mm; Brand: Yageo; Case Code - in: 0603; Case Code - mm: 1608; Product Category: 0603 SMD Chip Resistors; Standard Pack Qty: 5000; RoHS - Mouser: Y; Minimum Order Quantity: 1; Reeling: True; ComponentLink1URL: http://www.mouser.com/ds/2/447/RC0603-272842.pdf; ComponentLink1Description: http://www.mouser.com/ds/2/447/RC0603-272842.pdf
footprint R0603_1608 (Chip Resistor, 2-Leads, Body 1.60x0.80mm, IPC Medium Density)
pins: 1, 2

## R1.24M(0402/1005)
designator R?, comment 1.24M
1.24M Resistor; Manufacturer: KOA Speer; Manufacturer Part Number: RK73H1ETTP1244F; Power Rating: 63 mW; Resistance: 1.24 MOhms; Temperature Coefficient: 200 PPM / C; Tolerance: 1 %; Voltage Rating: 50 V; Supplier 1: Mouser; Supplier Part Number 1: 660-RK73H1ETTP1244F; RoHS: RoHS Compliant; Category: Thick Film Resistors - SMD; Stock 1: 23150; Pricing 1: 1=0.040, 10=0.017, 100=0.008, 1000=0.004, 10000=0.002 (USD); Height: 0.35 mm; Length: 1 mm; Operating Temperature Range: - 55 C to + 155 C; Package / Case: 0402 (1005 metric); Packaging: Reel; Product: Thick Film Resistors SMD; Series: RK73H; Termination Style: SMD/SMT; Type: Precision Thick Film Resistors; Width: 0.5 mm; Brand: KOA Speer; Case Code - in: 0402; Case Code - mm: 1005; Standard Pack Qty: 10000; RoHS - Mouser: Y; Minimum Order Quantity: 1; Reeling: True; ComponentLink1URL: http://www.mouser.com/ds/2/219/RK73H-5715.pdf; ComponentLink1Description: http://www.mouser.com/ds/2/219/RK73H-5715.pdf
footprint R0402_1005 (Chip Resistor, 2-Leads, Body 1.00x0.50mm, IPC Medium Density)
pins: 1, 2

## R1.24M(0603/1608)
designator R?, comment 1.24M
1.24M Resistor; Manufacturer: KOA Speer; Manufacturer Part Number: RK73H1JTTDD1244F; Power Rating: 100 mW; Resistance: 1.24 MOhms; Temperature Coefficient: 200 PPM / C; Tolerance: 1 %; Voltage Rating: 50 V; Supplier 1: Mouser; RoHS: RoHS Compliant By Exemption; Category: Thick Film Resistors - SMD; Stock 1: 22243; Pricing 1: 1=0.100, 10=0.015, 100=0.008, 500=0.006, 1000=0.004, 5000=0.003, 10000=0.002 (USD); Height: 0.45 mm; Length: 1.6 mm; Operating Temperature Range: - 55 C to + 155 C; Package / Case: 0603 (1608 metric); Packaging: Reel; Product: Thick Film Resistors SMD; Series: RK73H; Termination Style: SMD/SMT; Width: 0.8 mm; Brand: KOA Speer; Case Code - in: 0603; Case Code - mm: 1608; Product Category: 0603 SMD Thick Film Chip Resistors; Standard Pack Qty: 10000; RoHS - Mouser: E; Minimum Order Quantity: 1; Reeling: True; ComponentLink1URL: http://www.mouser.com/ds/2/219/RK73H-5715.pdf; ComponentLink1Description: http://www.mouser.com/ds/2/219/RK73H-5715.pdf; Supplier Part Number 1: 660-RK73H1JTTDD1244F
footprint R0603_1608 (Chip Resistor, 2-Leads, Body 1.60x0.80mm, IPC Medium Density)
pins: 1, 2

## R1k(0402/1005)
designator R?, comment 1k
1K Resistor; Manufacturer: KOA Speer; Manufacturer Part Number: RK73H1ETTP1001F; Power Rating: 100 mW (1/10 W); Resistance: 1 kOhms; Temperature Coefficient: 100 PPM / C; Tolerance: 1 %; Voltage Rating: 50 V; Supplier 1: Mouser; Supplier Part Number 1: 660-RK73H1ETTP1001F; RoHS: RoHS Compliant By Exemption; Category: Thick Film Resistors - SMD; Stock 1: 2792; Pricing 1: 1=0.100, 10=0.024, 100=0.006, 1000=0.004, 10000=0.003 (USD); Features: Anti-leaching nickel barrier terminations; Height: 0.35 mm; Length: 1 mm; Operating Temperature Range: - 55 C to + 155 C; Package / Case: 0402 (1005 metric); Packaging: Reel; Product: Thick Film Resistors SMD; Series: RK73H; Termination Style: SMD/SMT; Type: Precision Thick Film Chip Resistor; Width: 0.5 mm; Brand: KOA Speer; Case Code - in: 0402; Case Code - mm: 1005; Maximum Operating Temperature: + 155 C; Minimum Operating Temperature: - 55 C; Standard Pack Qty: 10000; RoHS - Mouser: E; Minimum Order Quantity: 1; Reeling: True; ComponentLink1URL: http://www.mouser.com/ds/2/219/RK73H-5715.pdf; ComponentLink1Description: http://www.mouser.com/ds/2/219/RK73H-5715.pdf
footprint R0402_1005 (Chip Resistor, 2-Leads, Body 1.00x0.50mm, IPC Medium Density)
pins: 1, 2